# EAGLE library part MAX641CSA (library maxim)
Step-up SWITCHING REGULATOR CONTROLLER
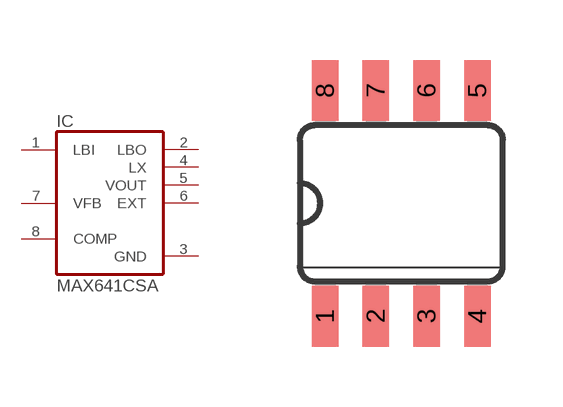
[diagram p155: symbol with the pads of SO08; footprint SO08]

Designator prefix IC

## MAX641CSA (OC_FARNELL: unknown; OC_NEWARK: unknown)  [SO08]
1  LBI  in
2  LBO  out
3  GND  pwr
4  LX  out
5  VOUT  out
6  EXT  out
7  VFB  in
8  COMP  in

## Footprint SO08 (pad centres in mm)
Small Outline Package SOIC 150 mil
smd 0.66 x 1.524: 1 -1.905,-2.819; 2 -0.635,-2.819; 3 0.635,-2.819; 4 1.905,-2.819; 5 1.905,2.819; 6 0.635,2.819; 7 -0.635,2.819; 8 -1.905,2.819